# Altium footprint library MICROFOOT4-SPE-Si8802DB.PcbLib: 1 footprints
Each footprint in its own frame and in the unit in brackets; x right, y up, seen from the top. Pads: shape width x height; smd on the part's side, far side on the other; paste and mask are expansions set on the pad; w line width, h text height; cw(c..) or ccw(c..) is an arc to the next point about the centre after c.
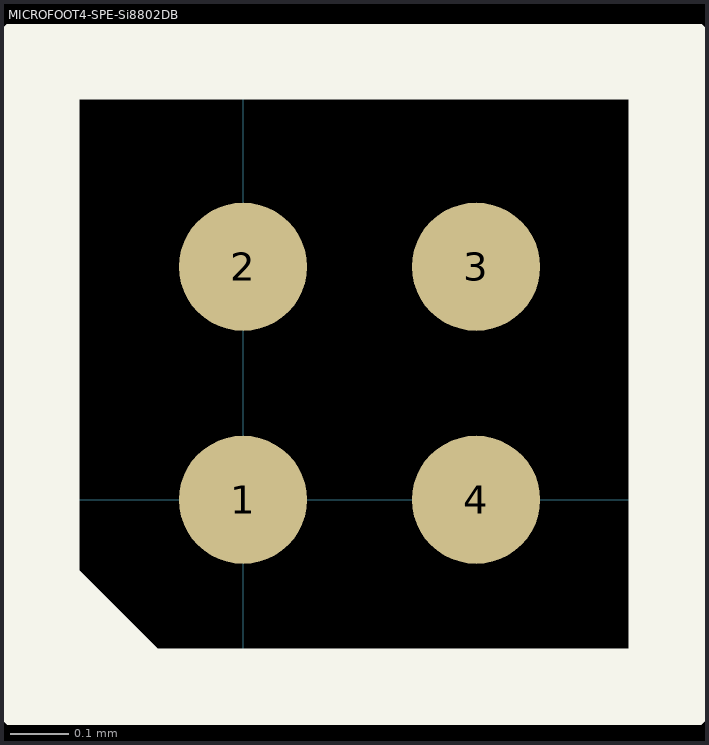
[diagram p0: the footprint, top view; thin cyan lines are the x and y axes]

## MICROFOOT4-SPE-Si8802DB [mm]
pads (4):
  round 0.22 smd paste-0.03 mask-0.025: 1(0,0) 2(0,0.4) 3(0.4,0.4) 4(0.4,0)
Top Overlay:
  lines w0.15: -0.356,-0.152 -0.178,-0.33 ; -0.356,-0.33 -0.356,0.762 0.737,0.762 0.737,-0.33 -0.356,-0.33
3D body: height 0.51, standoff 0.25, extent -0.279,-0.279 0.686,0.686